# EAGLE library part FT232RL (library SamacSys_Parts)
USB to serial TTL level UART FT232RL FT232RL, Universal Asynchronous Receiver & Transmitter 3MBd, 28-Pin, SSOP Source: Datasheet <http://www.ftdichip.com/Support/Documents/DataSheets/ICs/DS_FT232R.pdf>
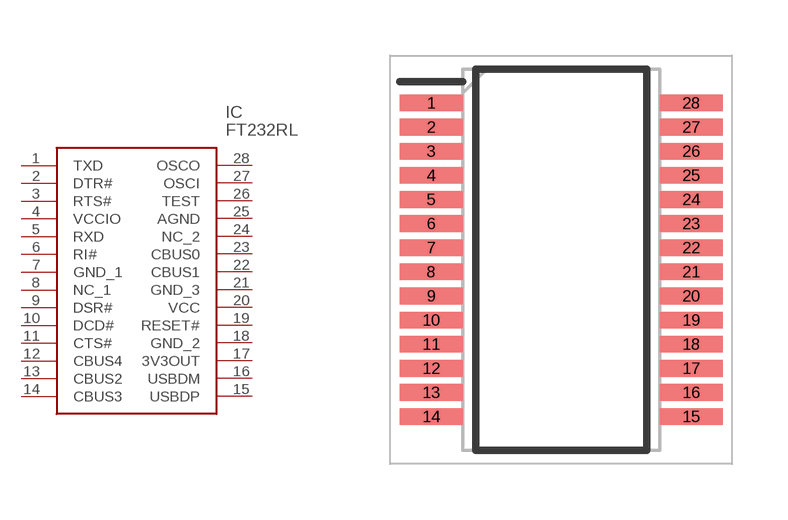
[diagram p1: symbol with the pads of SOP65P778X200-28N$1; footprint SOP65P778X200-28N$1]

Designator prefix IC

## FT232RL (DESCRIPTION: USB to serial TTL level UART FT232RL FT232RL, Universal Asynchronous Receiver & Transmitter 3MBd, 28-Pin, SSOP; HEIGHT: 2mm; MANUFACTURER_NAME: FTDI Chip; MANUFACTURER_PART_NUMBER: FT232RL)  [SOP65P778X200-28N$1]
1  TXD
2  DTR#
3  RTS#
4  VCCIO
5  RXD
6  RI#
7  GND_1
8  NC_1
9  DSR#
10  DCD#
11  CTS#
12  CBUS4
13  CBUS2
14  CBUS3
15  USBDP
16  USBDM
17  3V3OUT
18  GND_2
19  RESET#
20  VCC
21  GND_3
22  CBUS1
23  CBUS0
24  NC_2
25  AGND
26  TEST
27  OSCI
28  OSCO

## Footprint SOP65P778X200-28N$1 (pad centres in mm)
SSOP-28 1
smd 1.7 x 0.45: 1 -3.5,4.225; 2 -3.5,3.575; 3 -3.5,2.925; 4 -3.5,2.275; 5 -3.5,1.625; 6 -3.5,0.975; 7 -3.5,0.325; 8 -3.5,-0.325; 9 -3.5,-0.975; 10 -3.5,-1.625; 11 -3.5,-2.275; 12 -3.5,-2.925; 13 -3.5,-3.575; 14 -3.5,-4.225; 15 3.5,-4.225; 16 3.5,-3.575; 17 3.5,-2.925; 18 3.5,-2.275; 19 3.5,-1.625; 20 3.5,-0.975; 21 3.5,-0.325; 22 3.5,0.325; 23 3.5,0.975; 24 3.5,1.625; 25 3.5,2.275; 26 3.5,2.925; 27 3.5,3.575; 28 3.5,4.225